# EAGLE library part TRXC2-TIF (library modules)
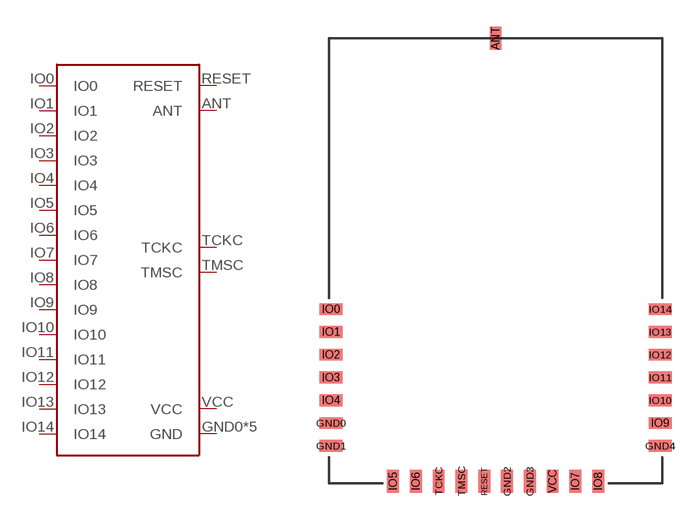
[diagram p2: symbol with the pads of TRXC2-TIF; footprint TRXC2-TIF]

Designator prefix -

## TRXC2-TIFSMD  [TRXC2-TIF]
ANT  ANT  in
GND0  GND  pwr
GND1  GND  pwr
GND2  GND  pwr
GND3  GND  pwr
GND4  GND  pwr
IO0  IO0
IO1  IO1
IO2  IO2
IO3  IO3
IO4  IO4
IO5  IO5
IO6  IO6
IO7  IO7
IO8  IO8
IO9  IO9
IO10  IO10
IO11  IO11
IO12  IO12
IO13  IO13
IO14  IO14
RESET  RESET  in
TCKC  TCKC
TMSC  TMSC
VCC  VCC  pwr

## Footprint TRXC2-TIF (pad centres in mm)
smd 0.66 x 1.27: ANT 0,12.41; GND2 0.635,-12.281; GND3 1.905,-12.281; IO5 -5.715,-12.281; IO6 -4.445,-12.281; IO7 4.445,-12.281; IO8 5.715,-12.281; RESET -0.635,-12.281; TCKC -3.175,-12.281; TMSC -1.905,-12.281; VCC 3.175,-12.281
smd 1.27 x 0.66: GND0 -9.171,-9.04; GND1 -9.171,-10.31; GND4 9.171,-10.31; IO0 -9.171,-2.69; IO1 -9.171,-3.96; IO2 -9.171,-5.23; IO3 -9.171,-6.5; IO4 -9.171,-7.77; IO9 9.171,-9.04; IO10 9.171,-7.77; IO11 9.171,-6.5; IO12 9.171,-5.23; IO13 9.171,-3.96; IO14 9.171,-2.69